# Altium schematic symbol library TPS259824ONRGET.SchLib: 1 symbol
Pins are listed as number, name and electrical type; pins without a type are passive.

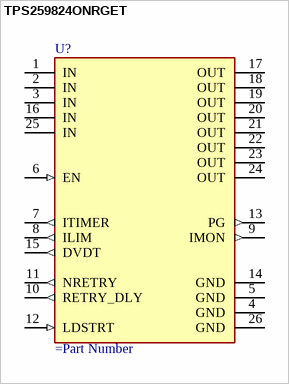
[diagram p0: symbol TPS259824ONRGET]

## TPS259824ONRGET
designator U?
pins: 1 IN (power), 2 IN (power), 3 IN (power), 4 GND (power), 5 GND (power), 6 EN (in), 7 ITIMER (out), 8 ILIM (out), 9 IMON (out), 10 RETRY_DLY (out), 11 NRETRY (out), 12 LDSTRT (in), 13 PG (out), 14 GND (power), 15 DVDT (out), 16 IN (power), 17 OUT (power), 18 OUT (power), 19 OUT (power), 20 OUT (power), 21 OUT (power), 22 OUT (power), 23 OUT (power), 24 OUT (power), 25 IN (power), 26 GND (power)